# EAGLE library part DF11-8DP (library connectors)
Hirose DF11 8-pos Through Hole
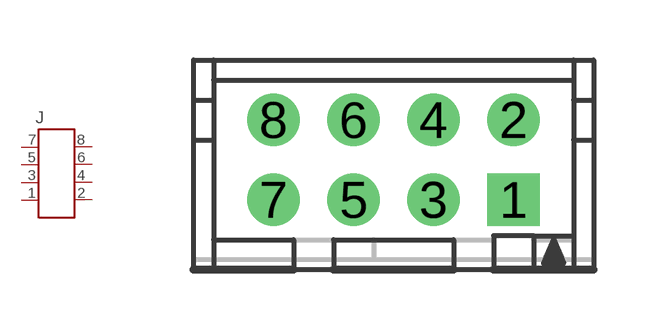
[diagram p1: symbol with the pads of DF11-8DP-2DSA; footprint DF11-8DP-2DSA]

Designator prefix J

## DF11-8DP  [DF11-8DP-2DSA]
1  1
2  2
3  3
4  4
5  5
6  6
7  7
8  8

## Footprint DF11-8DP-2DSA (pad centres in mm)
Hirose DF11 8-Pos Vert Thru-Hole http://www.hirose.co.jp/cataloge_hp/2d/EDC3-080371-02.pdf
drill 0.8 square: 1 3,-1
drill 0.8: 2 3,1; 3 1,-1; 4 1,1; 5 -1,-1; 6 -1,1; 7 -3,-1; 8 -3,1